# EAGLE library part 43045-1602 (library 43045-1602)
Micro-Fit 3.0 Right-Angle Header, 3.00mm Pitch, Dual Row, 16 Circuits, with Snap-in Plastic Peg PCB Lock Source: Datasheet <https://componentsearchengine.com/Datasheets/1/43045-1602.pdf>
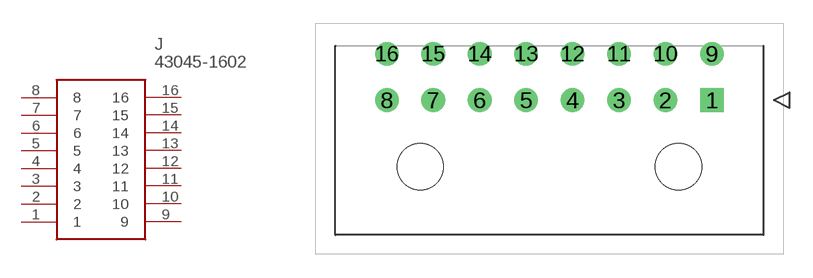
[diagram p0: symbol with the pads of 43045-16(00,01,02,10); footprint 43045-16(00,01,02,10)]

Designator prefix J

## 43045-1602 (Description: Micro-Fit 3.0 Right-Angle Header, 3.00mm Pitch, Dual Row, 16 Circuits, with Snap-in Plastic Peg PCB Lock; Height: 8.77mm; Manufacturer_Name: Molex; Manufacturer_Part_Number: 43045-1602; Mouser_Part_Number: 538-43045-1602; Mouser_Price-Stock: https://www.mouser.com/Search/Refine.aspx?Keyword=538-43045-1602)  [43045-16(00,01,02,10)]
1  1
2  2
3  3
4  4
5  5
6  6
7  7
8  8
9  9
10  10
11  11
12  12
13  13
14  14
15  15
16  16

## Footprint 43045-16(00,01,02,10) (pad centres in mm)
43045-16(00,01,02,10)
drill 1.02 pad 1.52 square: 1 0,0
drill 1.02 pad 1.52: 2 -3,0; 3 -6,0; 4 -9,0; 5 -12,0; 6 -15,0; 7 -18,0; 8 -21,0; 9 0,3; 10 -3,3; 11 -6,3; 12 -9,3; 13 -12,3; 14 -15,3; 15 -18,3; 16 -21,3
hole 3 at -2.16,-4.32
hole 3 at -18.84,-4.32